# Altium schematic symbol library OS103011MS8QP1C.SchLib: 1 symbol
Pins are listed as number, name and electrical type; pins without a type are passive.

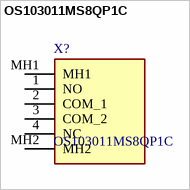
[diagram p0: symbol OS103011MS8QP1C]

## OS103011MS8QP1C
designator X?
Slide Switches .1A 12VDC SP3T MINI SLIDE; Manufacturer_Name: C & K COMPONENTS; Geometry.Height: 8.7mm; Manufacturer_Part_Number: OS103011MS8QP1C; Mouser Part Number: 611-OS103011MS8QP1C; Mouser Price/Stock: https://www.mouser.co.uk/ProductDetail/CK/OS103011MS8QP1C?qs=RHLK7eRW6AERXHXtlIQZ1Q%3D%3D; Arrow Part Number: OS103011MS8QP1C; Arrow Price/Stock: https://www.arrow.com/en/products/os103011ms8qp1c/ck?region=europe; Datasheet Link: https://www.mouser.com/datasheet/2/60/os-1382783.pdf
footprint OS103011MS8QP1C
pins: 1 NO, 2 COM_1, 3 COM_2, 4 NC, MH1, MH2